# Altium footprint library HEADER-2x5.PcbLib: 1 footprints
Each footprint in its own frame and in the unit in brackets; x right, y up, seen from the top. Pads: shape width x height; smd on the part's side, far side on the other; paste and mask are expansions set on the pad; w line width, h text height; cw(c..) or ccw(c..) is an arc to the next point about the centre after c.
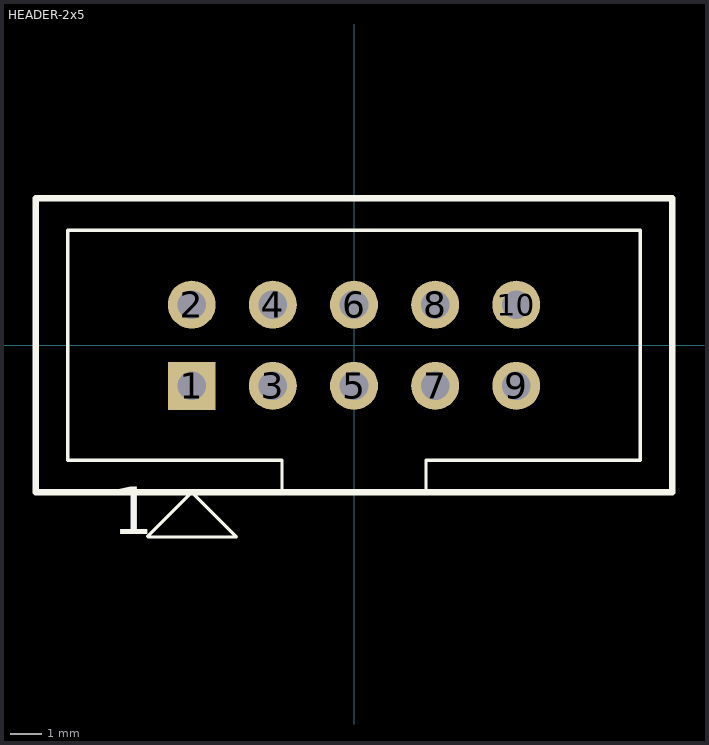
[diagram p0: the footprint, top view; thin cyan lines are the x and y axes]

## HEADER-2x5 [mm] "Header 2.54mm pitch, 2x5 Positions"
height 9.3
pads (10):
  rect 1.5x1.5 hole 0.9: 1(-5.08,-1.27)
  round 1.5 hole 0.9: 2(-5.08,1.27) 3(-2.54,-1.27) 4(-2.54,1.27) 5(0,-1.27) 6(0,1.27) 7(2.54,-1.27) 8(2.54,1.27) 9(5.08,-1.27) 10(5.08,1.27)
Top Overlay:
  lines w0.102: -6.46,-5.98 -5.08,-4.6 -3.68,-6 -6.44,-6 ; -2.25,-4.6 -2.25,-3.6 -8.96,-3.6 -8.96,3.6 8.96,3.6 8.96,-3.6 2.25,-3.6 2.25,-4.6 ; 1.04,-4.6 7.29,-4.6
  lines w0.2: -9.96,-4.6 9.96,-4.6 9.96,4.6 -9.96,4.6 -9.96,-4.6
  text "1" at -7.56,-6.4 h2.54
3D body: height 9.2, standoff 0, extent -9.959,-4.599 9.96,4.599
3D body: height 3.2, standoff 0, extent -8.959,-4.599 8.96,3.599